# Altium schematic symbol library Transistors.SchLib: 5 symbols
Pins are listed as number, name and electrical type; pins without a type are passive.

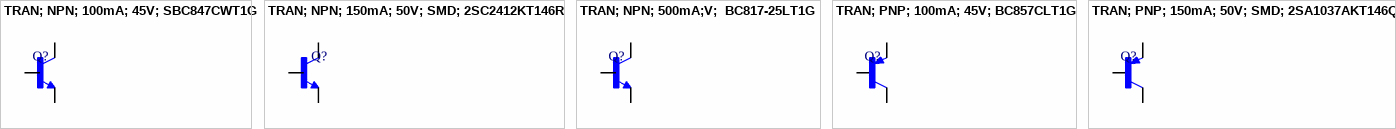
[diagram p0: symbols TRAN; NPN; 100mA; 45V; SBC847CWT1G to TRAN; PNP; 150mA; 50V; SMD; 2SA1037AKT146Q]

## TRAN; NPN; 100mA; 45V; SBC847CWT1G
designator Q?, comment Bipolar (BJT) Transistor NPN 45 V 100 mA 100MHz 150 mW Surface Mount SC-70-3 (SOT323)  (value not drawn)
Trans GP BJT NPN 45V 0.1A 200mW Automotive 3-Pin SC-70 T/R; Manufacturer: ON Semiconductor; Manufacturer Part Number: SBC847CWT1G; Max Power Dissipation: 150mW; Max Collector Current: 100mA; Collector Base Voltage (VCBO): 50V; Collector-emitter Voltage-Max: 600mV; Supplier: Mouser; Supplier Part Number: 863-SBC847CWT1G; RoHS: Yes; Category: BJTs; Stock: 29430; Pricing: 1=0.13, 10=0.08, 50=0.08, 100=0.05, 1000=0.028, 10000=0.019 (USD); Pins: 3; Min Operating Temperature: -55°C; Max Operating Temperature: 150°C; Package Quantity: 3000; Packaging: Tape and Reel; Polarity: NPN; Transition Frequency: 100MHz; Collector Emitter Breakdown Voltage: 45V; Series: -; Radiation Hardening: No; Lead Free: Lead Free; Halogen Free: Halogen Free; RoHS Compliant: Yes; ComponentLink1URL: https://datasheet.ciiva.com/980/bc846awt1-d-980986.pdf?src-supplier=Digikey; ComponentLink1Description: https://datasheet.ciiva.com/980/bc846awt1-d-980986.pdf?src-supplier=Digikey; ComponentLink2URL: https://datasheet.ciiva.com/11205/bc846awt1-d-11205070.pdf?src-supplier=Avnet; ComponentLink2Description: https://datasheet.ciiva.com/11205/bc846awt1-d-11205070.pdf?src-supplier=Avnet
footprint SOT-23-3-ONSEMI
pins: 1 B, 2 E, 3 C

## TRAN; NPN; 150mA; 50V; SMD; 2SC2412KT146R
designator Q?, comment Bipolar (BJT) Transistor NPN 50 V 150 mA 180MHz 200 mW Surface Mount SMT3  (value not drawn)
Small Signal Bipolar Transistor, 0.15A I(C), 50V V(BR)CEO, 1-Element, NPN, Silicon; Manufacturer: Rohm; Manufacturer Part Number: 2SC2412KT146R; Max Power Dissipation: 200mW; hFE Min: 120; Max Collector Current: 150mA; Collector Base Voltage (VCBO): 60V; Emitter Base Voltage (VEBO): 7V; Collector Emitter Saturation Voltage: 400mV; Designer: TVBac; Supplier: Mouser; Supplier Part Number: 755-2SC2412KT146R; RoHS: Yes; Category: BJTs; Stock: 883; Pricing: 1=0.2, 10=0.124, 50=0.124, 100=0.057, 1000=0.044, 10000=0.025 (USD); Mounting Technology: Surface Mount; Case/Package: SMD/SMT; Pins: 3; Contact Plating: Copper,Tin,Silver; Min Operating Temperature: -55°C; Max Operating Temperature: 150°C; Packaging: Tape and Reel; Package Quantity: 3000; Collector Emitter Voltage (VCEO): 50V; Transition Frequency: 180MHz; Polarity: NPN; Continuous Collector Current: 150mA; Collector Emitter Breakdown Voltage: 50V; Max Breakdown Voltage: 50V; Gain Bandwidth Product: 180MHz; Clock Frequency: 180MHz; Voltage Rating (DC): 50V; Current Rating: 150mA; Series: -; Collector-emitter Voltage-Max: 400mV; Length: 2.9mm; Width: 1.6mm; Height: 1.1mm; Radiation Hardening: No; Reach SVHC Compliant: No; Lead Free: Lead Free; RoHS Compliant: Yes; ComponentLink1URL: https://datasheet.ciiva.com/6362/2sc2412k-6362375.pdf?src-supplier=Digikey; ComponentLink1Description: https://datasheet.ciiva.com/6362/2sc2412k-6362375.pdf?src-supplier=Digikey; ComponentLink2URL: https://datasheet.ciiva.com/6362/2sc2412k-6362373.pdf?src-supplier=Digikey; ComponentLink2Description: https://datasheet.ciiva.com/6362/2sc2412k-6362373.pdf?src-supplier=Digikey; ComponentLink3URL: https://datasheet.ciiva.com/6362/2sc2412k-6362374.pdf?src-supplier=Digikey; ComponentLink3Description: https://datasheet.ciiva.com/6362/2sc2412k-6362374.pdf?src-supplier=Digikey; ComponentLink4URL: https://datasheet.ciiva.com/16292/2sc2412k-208972-16292133.pdf?src-supplier=Mouser; ComponentLink4Description: https://datasheet.ciiva.com/16292/2sc2412k-208972-16292133.pdf?src-supplier=Mouser; ComponentLink5URL: https://datasheet.ciiva.com/1194/2sc2412k-1194754.pdf?src-supplier=Element14; ComponentLink5Description: https://datasheet.ciiva.com/1194/2sc2412k-1194754.pdf?src-supplier=Element14; ComponentLink6URL: https://datasheet.ciiva.com/16307/2sc2412k-16307818.pdf?src-supplier=Future+Electronics; ComponentLink6Description: https://datasheet.ciiva.com/16307/2sc2412k-16307818.pdf?src-supplier=Future+Electronics; ComponentLink7Description: Link Digikey; ComponentLink7URL: https://www.digikey.com/en/products/detail/rohm-semiconductor/2SC2412KT146R/650455
footprint TO-236-3
pins: 1 B, 2 E, 3 C

## TRAN; NPN; 500mA;V;  BC817-25LT1G
designator Q?, comment Bipolar (BJT) Transistor NPN 45 V 500 mA 100MHz 300 mW Surface Mount SOT-23-3 (TO-236)  (value not drawn)
Single Bipolar Transistor, NPN, 45 V, 500 mA, 225 mW, SOT-23 (TO-236), 3 Pins, Surface Mount; Manufacturer: ON Semiconductor; Manufacturer Part Number: BC817-25LT1G; Max Power Dissipation: 300mW; hFE Min: 160; Max Collector Current: 500mA; Collector Emitter Breakdown Voltage: 45V; Collector Base Voltage (VCBO): 50V; Collector-emitter Voltage-Max: 700mV; Number of Elements: 1; Emitter Base Voltage (VEBO): 5V; Designer: TVBac; Supplier: Future Electronics; Supplier Part Number: 8062284; RoHS: Yes; Category: BJTs; Stock: 1185000; Pricing: 3000=0.0157, 12000=0.0151, 30000=0.0146, 75000=0.0142, 120000=0.0136 (USD); Case/Package: SOT-23-3; Pins: 3; Contact Plating: Tin,Matte; Min Operating Temperature: -55°C; Max Operating Temperature: 150°C; Package Quantity: 3000; Packaging: Tape and Reel; Transition Frequency: 100MHz; Polarity: NPN; Max Breakdown Voltage: 45V; Power Dissipation: 300mW; Clock Frequency: 100MHz; Series: -; Frequency: 100MHz; Collector Emitter Voltage (VCEO): 45V; Collector Emitter Saturation Voltage: 700mV; Gain Bandwidth Product: 100MHz; Current Rating: 500mA; Length: 2.9mm; Width: 1.3mm; Height: 0.94mm; Radiation Hardening: No; Lead Free: Lead Free; RoHS Compliant: Yes; Reach SVHC Compliant: No; ComponentLink1URL: https://datasheet.ciiva.com/27748/2010413-27748829.pdf?src-supplier=Jameco; ComponentLink1Description: https://datasheet.ciiva.com/27748/2010413-27748829.pdf?src-supplier=Jameco; ComponentLink2URL: https://datasheet.ciiva.com/1196/bc817-16lt1-d-1196558.pdf?src-supplier=Element14; ComponentLink2Description: https://datasheet.ciiva.com/1196/bc817-16lt1-d-1196558.pdf?src-supplier=Element14; ComponentLink3URL: https://datasheet.ciiva.com/22641/bc817-16lt1-d-22641013.pdf?src-supplier=Farnell; ComponentLink3Description: https://datasheet.ciiva.com/22641/bc817-16lt1-d-22641013.pdf?src-supplier=Farnell; ComponentLink4URL: https://datasheet.ciiva.com/22664/bc817-16lt1-d-22664204.pdf?src-supplier=Element14; ComponentLink4Description: https://datasheet.ciiva.com/22664/bc817-16lt1-d-22664204.pdf?src-supplier=Element14; ComponentLink5URL: https://datasheet.ciiva.com/22664/1842041-22664101.pdf?src-supplier=Element14; ComponentLink5Description: https://datasheet.ciiva.com/22664/1842041-22664101.pdf?src-supplier=Element14; ComponentLink6Description: Link Digikey; ComponentLink6URL: https://www.digikey.com/en/products/detail/onsemi/BC817-25LT1G/918339; ComponentLink7Description: Link CXT; ComponentLink7URL: https://linhkien.cxt.vn/9766-bc817-16-6a-npn-transistor-05a-45v-sot23.html
footprint SOT-23-3-ONSEMI
pins: 1 B, 2 E, 3 C

## TRAN; PNP; 100mA; 45V; BC857CLT1G
designator Q?, comment Bipolar (BJT) Transistor PNP 45 V 100 mA 100MHz 300 mW Surface Mount SOT-23-3 (TO-236)  (value not drawn)
ON Semi BC857CLT1G PNP Bipolar Transistor; 0.1 A; 45 V; 3-Pin SOT-23; Manufacturer: ON Semiconductor; Supplier: Avnet; Supplier Part Number: 45J0606; Manufacturer Part Number: BC857CLT1G; RoHS: Yes; Category: BJTs; Stock: 426; Pricing: 1=0.028, 25=0.073, 50=0.059, 100=0.045, 250=0.038 (USD); ComponentLink1URL: https://datasheet.ciiva.com/15138/getdatasheetpartid-38498-15138617.pdf?src-supplier=Verical; ComponentLink1Description: https://datasheet.ciiva.com/15138/getdatasheetpartid-38498-15138617.pdf?src-supplier=Verical; ComponentLink2URL: https://datasheet.ciiva.com/7972/1748002-7972221.pdf?src-supplier=Element14; ComponentLink2Description: https://datasheet.ciiva.com/7972/1748002-7972221.pdf?src-supplier=Element14; ComponentLink3URL: https://datasheet.ciiva.com/22664/1840529-22664120.pdf?src-supplier=Element14; ComponentLink3Description: https://datasheet.ciiva.com/22664/1840529-22664120.pdf?src-supplier=Element14; ComponentLink4URL: https://datasheet.ciiva.com/22664/1840529-22664121.pdf?src-supplier=Element14; ComponentLink4Description: https://datasheet.ciiva.com/22664/1840529-22664121.pdf?src-supplier=Element14; ComponentLink5URL: https://datasheet.ciiva.com/976/bc856alt1-d-976419.pdf?src-supplier=Digikey; ComponentLink5Description: https://datasheet.ciiva.com/976/bc856alt1-d-976419.pdf?src-supplier=Digikey; ComponentLink6URL: https://datasheet.ciiva.com/976/bc856alt1-d-976420.pdf?src-supplier=Digikey; ComponentLink6Description: https://datasheet.ciiva.com/976/bc856alt1-d-976420.pdf?src-supplier=Digikey; ComponentLink7URL: https://datasheet.ciiva.com/976/bc856alt1-d-976421.pdf?src-supplier=Digikey; ComponentLink7Description: https://datasheet.ciiva.com/976/bc856alt1-d-976421.pdf?src-supplier=Digikey
footprint SOT-23-3-ONSEMI
pins: 1 B, 2 E, 3 C

## TRAN; PNP; 150mA; 50V; SMD; 2SA1037AKT146Q
designator Q?, comment Bipolar (BJT) Transistor PNP 50 V 150 mA 140MHz 200 mW Surface Mount SMT3  (value not drawn)
TRANS PNP 50V 0.15A SOT-346; Manufacturer: Rohm; Manufacturer Part Number: 2SA1037AKT146Q; Designer: TVBac; Supplier: Mouser; Supplier Part Number: 755-2SA1037AKT146Q; RoHS: Yes; Category: BJTs; Stock: 5885; Pricing: 1=0.24, 10=0.144, 50=0.144, 100=0.066, 1000=0.055, 10000=0.035 (USD); ComponentLink1URL: https://datasheet.ciiva.com/26878/getdatasheetpartid-434641-26878521.pdf?src-supplier=Verical; ComponentLink1Description: https://datasheet.ciiva.com/26878/getdatasheetpartid-434641-26878521.pdf?src-supplier=Verical; ComponentLink2URL: https://datasheet.ciiva.com/16395/2sa1037ak-16395910.pdf?src-supplier=Future+Electronics; ComponentLink2Description: https://datasheet.ciiva.com/16395/2sa1037ak-16395910.pdf?src-supplier=Future+Electronics; ComponentLink3URL: https://datasheet.ciiva.com/973/2sa1037ak-973085.pdf?src-supplier=Digikey; ComponentLink3Description: https://datasheet.ciiva.com/973/2sa1037ak-973085.pdf?src-supplier=Digikey; ComponentLink4URL: https://datasheet.ciiva.com/973/2sa1037ak-973086.pdf?src-supplier=Digikey; ComponentLink4Description: https://datasheet.ciiva.com/973/2sa1037ak-973086.pdf?src-supplier=Digikey; ComponentLink5URL: https://datasheet.ciiva.com/973/2sa1037ak-973087.pdf?src-supplier=Digikey; ComponentLink5Description: https://datasheet.ciiva.com/973/2sa1037ak-973087.pdf?src-supplier=Digikey; ComponentLink6URL: https://datasheet.ciiva.com/1194/2sa1037ak-1194629.pdf?src-supplier=Element14; ComponentLink6Description: https://datasheet.ciiva.com/1194/2sa1037ak-1194629.pdf?src-supplier=Element14; ComponentLink7Description: Link Digikey; ComponentLink7URL: https://www.digikey.com/en/products/detail/rohm-semiconductor/2SA1037AKT146Q/650439
footprint SOT-23-3
pins: 1 B, 2 E, 3 C